# EAGLE library part FDC6329L (library TSOC-ESP8266-BASE)
Integrated Load Switch
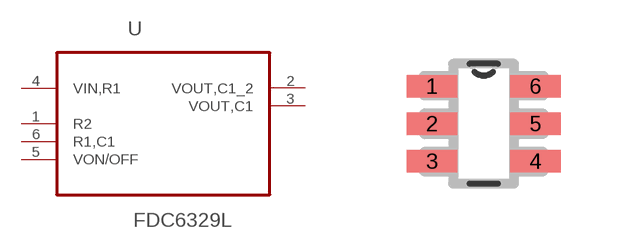
[diagram p0: symbol with the pads of SOT95P280X110-6N; footprint SOT95P280X110-6N]

Designator prefix U

## FDC6329L (MPN: FDC6329L; OC_FARNELL: 1652469; OC_NEWARK: 58K1425; PACKAGE: SSOT-23-6; SUPPLIER: FAIRCHILD SEMICONDUCTOR)  [SOT95P280X110-6N]
1  R2  in
2  VOUT,C1_2  out
3  VOUT,C1  out
4  VIN,R1  pwr
5  VON/OFF  in
6  R1,C1  in

## Footprint SOT95P280X110-6N (pad centres in mm)
smd 1.27 x 0.559: 1 -1.295,0.94; 2 -1.295,0; 3 -1.295,-0.94; 4 1.295,-0.94; 5 1.295,0; 6 1.295,0.94